# Altium footprint library MZBT_PcpLibrary.PcbLib: 144 footprints (part 1 of 9)
Each footprint in its own frame and in the unit in brackets; x right, y up, seen from the top. Pads: shape width x height; smd on the part's side, far side on the other; paste and mask are expansions set on the pad; w line width, h text height; cw(c..) or ccw(c..) is an arc to the next point about the centre after c.
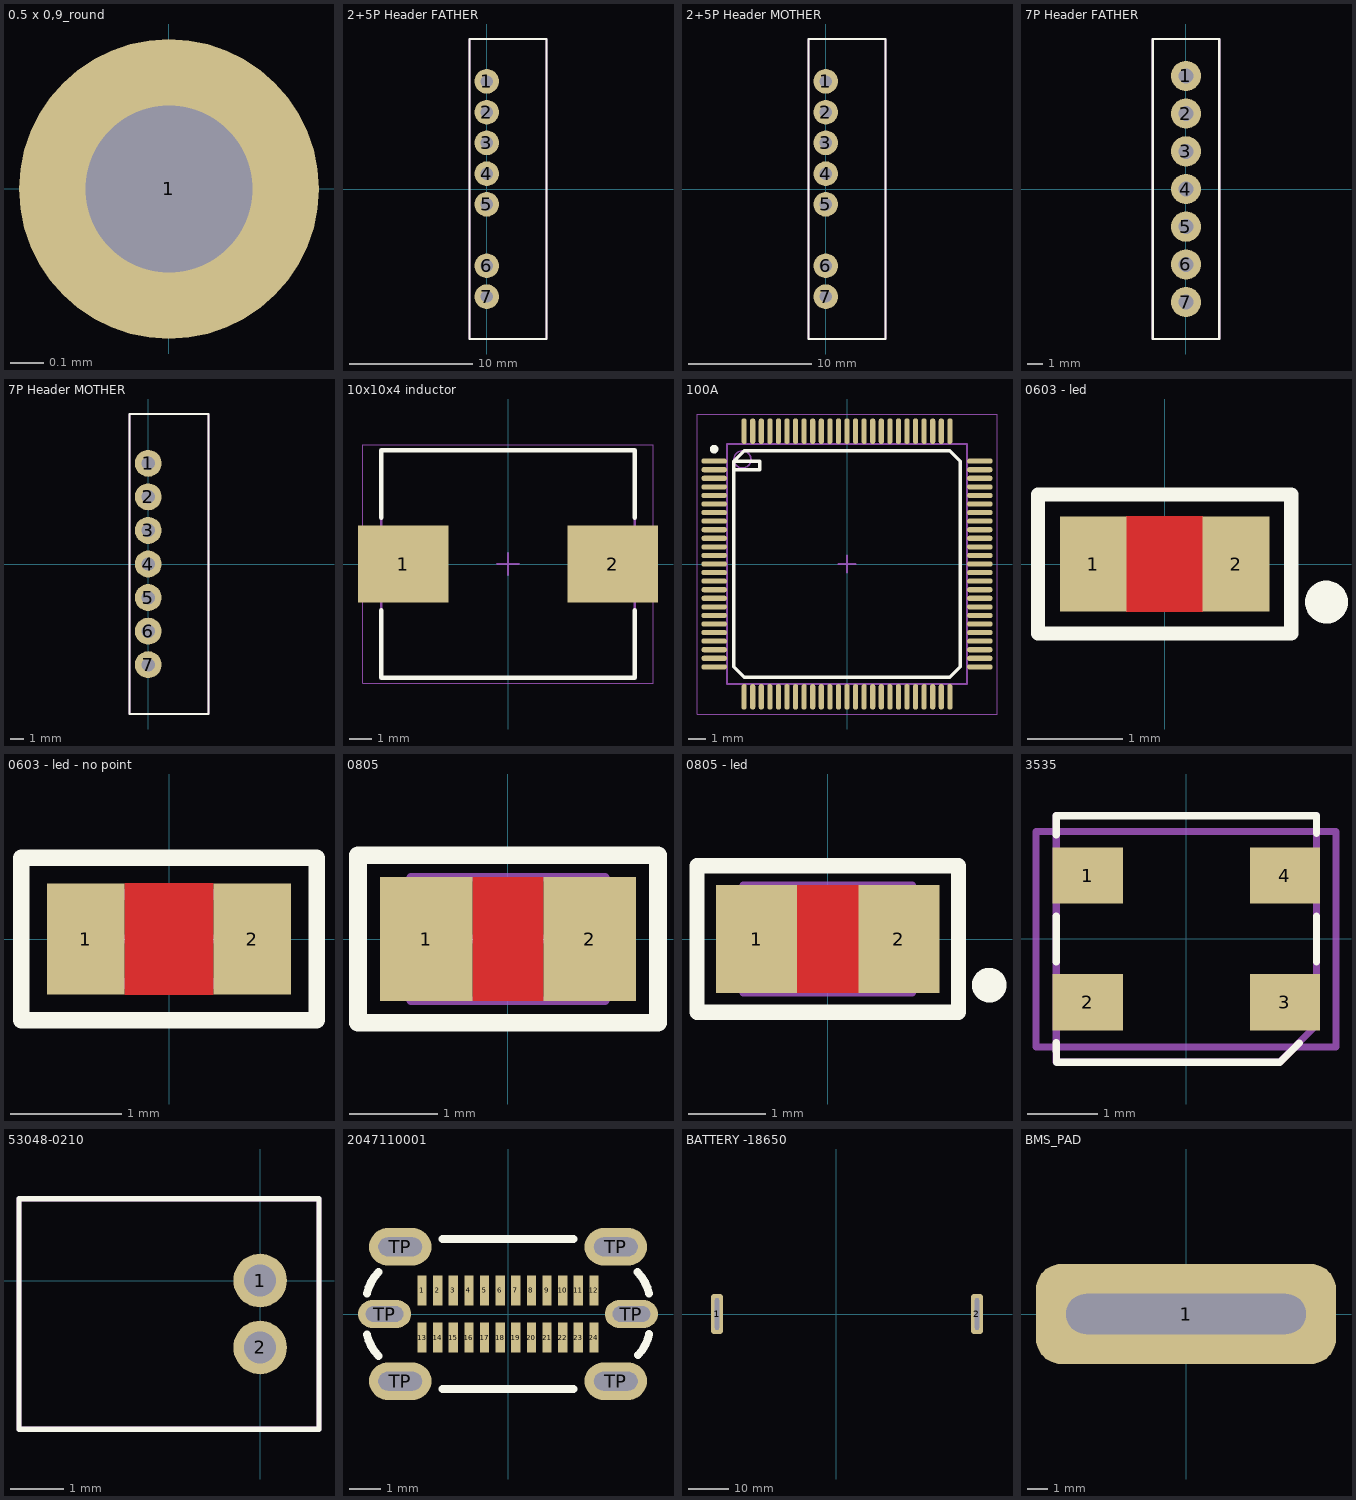
[diagram p0: the footprints below, top view; thin cyan lines are the x and y axes]

## 0.5 x 0,9_round [mm]
pads (1):
  round 0.9 hole 0.5: 1(0,0)
Top Designator (Mech9):
  text ".Designator" at -1.376,-0.157 h0.8

## 2+5P Header FATHER [mm]
pads (7):
  round 2 hole 1: 1(0,8.75) 2(0,6.25) 3(0,3.75) 4(0,1.25) 5(0,-1.25) 6(0,-6.25) 7(0,-8.75)
Top Overlay:
  lines w0.15: -1.4,-12.2 4.85,-12.2 4.85,12.2 -1.4,12.2 -1.4,-12.2
Top Comment:
  text ".Comment" at -0.689,-0.852 h1.52
Top Designator (Mech9):
  text ".Designator" at -1.117,0.372 h1.52
Top Courtyard:
  lines w0.15: -1.4,-12.2 -1.4,12.2 4.85,12.2 4.85,-12.2 -1.4,-12.2
3D body "battery_header 7P.stp": height 6.5, standoff -3, extent -0.99,-11.925 4.53,11.925

## 2+5P Header MOTHER [mm]
pads (7):
  round 2 hole 1: 1(0,8.75) 2(0,6.25) 3(0,3.75) 4(0,1.25) 5(0,-1.25) 6(0,-6.25) 7(0,-8.75)
Top Overlay:
  lines w0.15: -1.4,-12.2 -1.4,12.2 4.85,12.2 4.85,-12.2 -1.4,-12.2
Top Comment:
  text ".Comment" at -0.689,-0.852 h1.52
Top Designator (Mech9):
  text ".Designator" at -1.117,0.372 h1.52
Top Courtyard:
  lines w0.15: -1.4,-12.2 4.85,-12.2 4.85,12.2 -1.4,12.2 -1.4,-12.2
3D body "battery_header 7P.stp": height 6.5, standoff -3, extent -0.99,-11.925 4.53,11.925

## 7P Header FATHER [mm]
pads (7):
  round 2 hole 1: 1(0,7.5) 2(0,5) 3(0,2.5) 4(0,0) 5(0,-2.5) 6(0,-5) 7(0,-7.5)
Top Overlay:
  lines w0.15: -2.2,-9.95 2.2,-9.95 2.2,9.95 -2.2,9.95 -2.2,-9.95
Top Comment:
  text ".Comment" at -2.139,-0.952 h1.52
Top Designator (Mech9):
  text ".Designator" at -2.567,0.272 h1.52
Top Component Outline:
  lines w0.15: -2.2,-9.95 2.2,-9.95 2.2,9.95 -2.2,9.95 -2.2,-9.95
Top Courtyard:
  lines w0.15: -2.2,-9.95 2.2,-9.95 2.2,9.95 -2.2,9.95 -2.2,-9.95
3D body "7P header father.stp": height 7.2, standoff -2.48, extent -2,-9.75 2,9.75

## 7P Header MOTHER [mm]
pads (7):
  round 2 hole 1: 1(0,7.5) 2(0,5) 3(0,2.5) 4(0,0) 5(0,-2.5) 6(0,-5) 7(0,-7.5)
Top Overlay:
  lines w0.15: -1.4,-11.175 4.5,-11.175 4.5,11.175 -1.4,11.175 -1.4,-11.175
Top Comment:
  text ".Comment" at -0.689,-0.852 h1.52
Top Designator (Mech9):
  text ".Designator" at -1.117,0.372 h1.52
Top Component Outline:
  lines w0.15: -1.4,-11.175 4.5,-11.175 4.5,11.175 -1.4,11.175 -1.4,-11.175
Top Courtyard:
  lines w0.15: -1.4,-11.175 4.5,-11.175 4.5,11.175 -1.4,11.175 -1.4,-11.175
3D body "7P header mother.stp": height 6.7, standoff -3, extent -1.2,-10.975 4.32,10.975

## 10x10x4 inductor [mm] "Precision Wire Wound Inductor, 2-Leads, Body 11,00x10,00mm, IPC Medium Density"
height 4
pads (2):
  rect 4.1x3.5 smd: 1(-4.75,0) 2(4.75,0)
Top Overlay:
  lines w0.2: -5.75,-2.1 -5.75,-5.15 5.75,-5.15 5.75,-2.1 ; -5.75,2.1 -5.75,5.15 5.75,5.15 5.75,2.1
Top 3D Body (Mech13):
  lines w0.1: -5.75,-5.15 5.75,-5.15 5.75,5.15 -5.75,5.15 -5.75,-5.15
Top Courtyard:
  lines w0.05: -6.575,-5.4 6.575,-5.4 6.575,5.4 -6.575,5.4 -6.575,-5.4
  lines w0.1: -0.5,0 0.5,0 ; 0,-0.5 0,0.5
3D body: height 4, standoff 0, extent -5.75,-5.15 5.75,5.15

## 100A [mm] "atmega2560"
height 1.2
pads (100):
  oval 1.5x0.3 smd: 1(-7.75,6) 2(-7.75,5.5) 3(-7.75,5) 4(-7.75,4.5) 5(-7.75,4) 6(-7.75,3.5) 7(-7.75,3) 8(-7.75,2.5) 9(-7.75,2) 10(-7.75,1.5) 11(-7.75,1) 12(-7.75,0.5) 13(-7.75,0) 14(-7.75,-0.5) 15(-7.75,-1) 16(-7.75,-1.5) 17(-7.75,-2) 18(-7.75,-2.5) 19(-7.75,-3) 20(-7.75,-3.5) 21(-7.75,-4) 22(-7.75,-4.5) 23(-7.75,-5) 24(-7.75,-5.5) 25(-7.75,-6) 51(7.75,-6) 52(7.75,-5.5) 53(7.75,-5) 54(7.75,-4.5) 55(7.75,-4) 56(7.75,-3.5) 57(7.75,-3) 58(7.75,-2.5) 59(7.75,-2) 60(7.75,-1.5) 61(7.75,-1) 62(7.75,-0.5) 63(7.75,0) 64(7.75,0.5) 65(7.75,1) 66(7.75,1.5) 67(7.75,2) 68(7.75,2.5) 69(7.75,3) 70(7.75,3.5) 71(7.75,4) 72(7.75,4.5) 73(7.75,5) 74(7.75,5.5) 75(7.75,6)
  oval 0.3x1.5 smd: 26(-6,-7.75) 27(-5.5,-7.75) 28(-5,-7.75) 29(-4.5,-7.75) 30(-4,-7.75) 31(-3.5,-7.75) 32(-3,-7.75) 33(-2.5,-7.75) 34(-2,-7.75) 35(-1.5,-7.75) 36(-1,-7.75) 37(-0.5,-7.75) 38(0,-7.75) 39(0.5,-7.75) 40(1,-7.75) 41(1.5,-7.75) 42(2,-7.75) 43(2.5,-7.75) 44(3,-7.75) 45(3.5,-7.75) 46(4,-7.75) 47(4.5,-7.75) 48(5,-7.75) 49(5.5,-7.75) 50(6,-7.75) 76(6,7.75) 77(5.5,7.75) 78(5,7.75) 79(4.5,7.75) 80(4,7.75) 81(3.5,7.75) 82(3,7.75) 83(2.5,7.75) 84(2,7.75) 85(1.5,7.75) 86(1,7.75) 87(0.5,7.75) 88(0,7.75) 89(-0.5,7.75) 90(-1,7.75) 91(-1.5,7.75) 92(-2,7.75) 93(-2.5,7.75) 94(-3,7.75) 95(-3.5,7.75) 96(-4,7.75) 97(-4.5,7.75) 98(-5,7.75) 99(-5.5,7.75) 100(-6,7.75)
Top Overlay:
  circle w0.25: c-7.75,6.7 r0.125
  lines w0.2: -6.6,5.5 -5.1,5.5 -5.1,6 -6.6,6 ; -6.6,6 -6,6.6 6,6.6 6.6,6 6.6,-6 6,-6.6 -6,-6.6 -6.6,-6 -6.6,6
Top Comment:
  text ".Comment" at -2.189,-0.952 h1.52
Top Designator (Mech9):
  text ".Designator" at -2.617,0.272 h1.52
Top 3D Body (Mech13):
  circle w0.1: c-6.1,6.1 r0.5
  lines w0.1: -7,-7 7,-7 7,7 -7,7 -7,-7
Top Courtyard:
  lines w0.05: -8.75,-8.75 8.75,-8.75 8.75,8.75 -8.75,8.75 -8.75,-8.75
  lines w0.1: -0.5,0 0.5,0 ; 0,-0.5 0,0.5
3D body "CQFP50P1600X1600X120-100N.step": height 1.15, standoff 0, extent -8.125,-8.125 8.125,8.125

## 0603 - led [mm]
height 0.45
pads (2):
  rect 0.7x1 smd: 1(-0.75,0) 2(0.75,0)
Top Layer:
  pour cut-out: -0.4,0.5 0.4,0.5 0.4,-0.5 -0.4,-0.5
Top Overlay:
  circle w0.25: c1.7,-0.4 r0.1
  lines w0.15: -1.33,-0.73 1.33,-0.73 1.33,0.73 -1.33,0.73 -1.33,-0.73
Top Comment:
  text ".Comment" at -0.861,-0.374 h0.6
Top Designator (Mech9):
  text ".Designator" at -1.376,0.143 h0.8
Top Component Outline:
  lines w0.1: -0.85,-0.4 -0.85,0.4 0.75,0.4 0.75,-0.4 -0.85,-0.4
Top Courtyard:
  lines w0.05: -1.35,-0.75 -1.35,0.75 1.35,0.75 1.35,-0.75 -1.35,-0.75
  lines w0.1: -0.375,0 0.375,0 ; 0,-0.375 0,0.375
3D body "User Library-LED SMD0603.step": height 0.68, standoff 0, extent -0.825,-0.368 0.825,0.357

## 0603 - led - no point [mm]
height 0.45
pads (2):
  rect 0.7x1 smd: 1(-0.75,0) 2(0.75,0)
Top Layer:
  pour cut-out: -0.4,0.5 0.4,0.5 0.4,-0.5 -0.4,-0.5
Top Overlay:
  lines w0.15: -1.33,-0.73 1.33,-0.73 1.33,0.73 -1.33,0.73 -1.33,-0.73
Top Comment:
  text ".Comment" at -0.861,-0.374 h0.6
Top Designator (Mech9):
  text ".Designator" at -1.376,0.143 h0.8
Top Component Outline:
  lines w0.1: -0.85,-0.4 -0.85,0.4 0.75,0.4 0.75,-0.4 -0.85,-0.4
Top Courtyard:
  lines w0.05: -1.35,-0.75 -1.35,0.75 1.35,0.75 1.35,-0.75 -1.35,-0.75
  lines w0.1: -0.375,0 0.375,0 ; 0,-0.375 0,0.375
3D body "User Library-LED SMD0603.step": height 0.68, standoff 0, extent -0.825,-0.368 0.825,0.357

## 0805 [mm] "Chip Resistor, 2-Leads, Body 2,10x1,30mm, IPC Medium Density"
height 0.55
pads (2):
  rect 1.05x1.4 smd: 1(-0.925,0) 2(0.925,0)
Top Layer:
  pour cut-out: -0.4,0.7 0.4,0.7 0.4,-0.7 -0.4,-0.7
Top Overlay:
  lines w0.2: -1.7,-0.95 1.7,-0.95 1.7,0.95 -1.7,0.95 -1.7,-0.95
Top Comment:
  text ".Comment" at -0.861,-0.374 h0.6
Top Designator (Mech9):
  text ".Designator" at -1.376,0.143 h0.8
Top Component Outline:
  lines w0.1: -1.1,-0.7 1.1,-0.7 1.1,0.7 -1.1,0.7 -1.1,-0.7
Top Courtyard:
  lines w0.05: -1.7,-0.95 -1.7,0.95 1.7,0.95 1.7,-0.95 -1.7,-0.95
  lines w0.1: -0.5,0 0.5,0 ; 0,-0.5 0,0.5
3D body "R0805.step": height 0.55, standoff 0, extent -1.2,-0.625 1.2,0.625

## 0805 - led [mm] "Chip Resistor, 2-Leads, Body 2,10x1,30mm, IPC Medium Density"
height 0.55
pads (2):
  rect 1.05x1.4 smd: 1(-0.925,0) 2(0.925,0)
Top Layer:
  pour cut-out: -0.4,0.7 0.4,0.7 0.4,-0.7 -0.4,-0.7
Top Overlay:
  circle w0.25: c2.1,-0.6 r0.1
  lines w0.2: -1.7,-0.95 1.7,-0.95 1.7,0.95 -1.7,0.95 -1.7,-0.95
Top Comment:
  text ".Comment" at -0.861,-0.374 h0.6
Top Designator (Mech9):
  text ".Designator" at -1.376,0.143 h0.8
Top Component Outline:
  lines w0.1: -1.1,-0.7 1.1,-0.7 1.1,0.7 -1.1,0.7 -1.1,-0.7
Top Courtyard:
  lines w0.05: -1.7,-0.95 -1.7,0.95 1.7,0.95 1.7,-0.95 -1.7,-0.95
  lines w0.1: -0.5,0 0.5,0 ; 0,-0.5 0,0.5
3D body "User Library-LED SMD0805.step": height 0.85, standoff 0.01, extent -1.031,-0.46 1.031,0.446

## 3535 [mm] "sk6812-mini"
pads (4):
  rect 1x0.8 smd: 1(-1.4,0.9) 2(-1.4,-0.9) 3(1.4,-0.9) 4(1.4,0.9)
Top Overlay:
  lines w0.102: -1.85,-0.325 -1.85,0.325 ; -1.85,1.475 -1.85,1.75 1.85,1.75 1.85,1.5 ; -1.85,-1.475 -1.847,-1.754 1.328,-1.754 1.603,-1.478 ; 1.85,-0.325 1.85,0.325
Top Comment:
  text ".Comment" at -0.861,-0.374 h0.6
Top Designator (Mech9):
  text ".Designator" at -1.376,0.143 h0.8
Top Component Outline:
  lines w0.1: -1.85,-1.75 -1.85,1.75 1.85,1.75 1.85,-1.225 1.325,-1.75 -1.85,-1.75
Top Courtyard:
  lines w0.102: -2.138,-1.538 2.125,-1.538 2.125,1.525 -2.138,1.525 -2.138,-1.538
3D body "SK6812MINI--3DModel-STEP-269445.STEP": height 1.1, standoff 0, extent -1.85,-1.75 1.85,1.75

## 53048-0210 [mm]
pads (2):
  round 1 hole 0.6: 1(0,0) 2(0,-1.25)
Top Overlay:
  lines w0.1: -4.5,-2.775 -4.5,1.525 1.1,1.525 1.1,-2.775 -4.5,-2.775
Top Designator (Mech9):
  text ".Designator" at -1.459,-1.133 h0.8
Top Component Outline:
  lines w0.1: -4.5,-2.775 1.1,-2.775 1.1,1.525 -4.5,1.525 -4.5,-2.775
3D body "User Library-53048-0210.STEP": height 3.5, standoff -2.4, extent -4.45,-2.775 1.05,1.475

## 2047110001 [mm] "USB Type-C 3.1"
pads (30):
  rect 0.3x0.95 smd: 1(-2.75,0.755) 2(-2.25,0.755) 3(-1.75,0.755) 4(-1.25,0.755) 5(-0.75,0.755) 6(-0.25,0.755) 7(0.25,0.755) 8(0.75,0.755) 9(1.25,0.755) 10(1.75,0.755) 11(2.25,0.755) 12(2.75,0.755) 13(-2.75,-0.755) 14(-2.25,-0.755) 15(-1.75,-0.755) 16(-1.25,-0.755) 17(-0.75,-0.755) 18(-0.25,-0.755) 19(0.25,-0.755) 20(0.75,-0.755) 21(1.25,-0.755) 22(1.75,-0.755) 23(2.25,-0.755) 24(2.75,-0.755)
  oval 1.7x0.9 hole 0.5 slot 1.2 at 0 deg: TP(-3.95,0) TP(3.95,0)
  oval 2x1.2 hole 0.6 slot 1.4 at 0 deg: TP(-3.45,-2.15) TP(-3.45,2.15) TP(3.45,-2.15) TP(3.45,2.15)
Top Overlay:
  lines w0.254: -4.517,-0.654 ccw(c-3.15,-0.35) -4.14,-1.34 ; -4.517,0.654 cw(c-3.15,0.35) -4.14,1.34 ; -2.1,-2.4 2.1,-2.4 ; -2.1,2.4 2.1,2.4 ; 4.14,1.34 cw(c3.15,0.35) 4.517,0.654 ; 4.164,-1.316 ccw(c3.15,-0.35) 4.519,-0.643
3D body "User Library-2047110001.step": height 9.05, standoff -1.41, extent -4.44,-2.15 4.5,2.45

## BATTERY -18650 [mm]
pads (2):
  rrect50% 3x10 hole 1 slot 8 at 90 deg mask+0: 1(-29.8,0)
  rrect50% 3x10 hole 1 slot 8 at 90 deg: 2(35.2,0)

## BMS_PAD [mm]
pads (1):
  rrect50% 15x5 hole 2 slot 12 at 0 deg: 1(0,0)